# Altium footprint library 2Pin.PcbLib: 1 footprints
Each footprint in its own frame and in the unit in brackets; x right, y up, seen from the top. Pads: shape width x height; smd on the part's side, far side on the other; paste and mask are expansions set on the pad; w line width, h text height; cw(c..) or ccw(c..) is an arc to the next point about the centre after c.
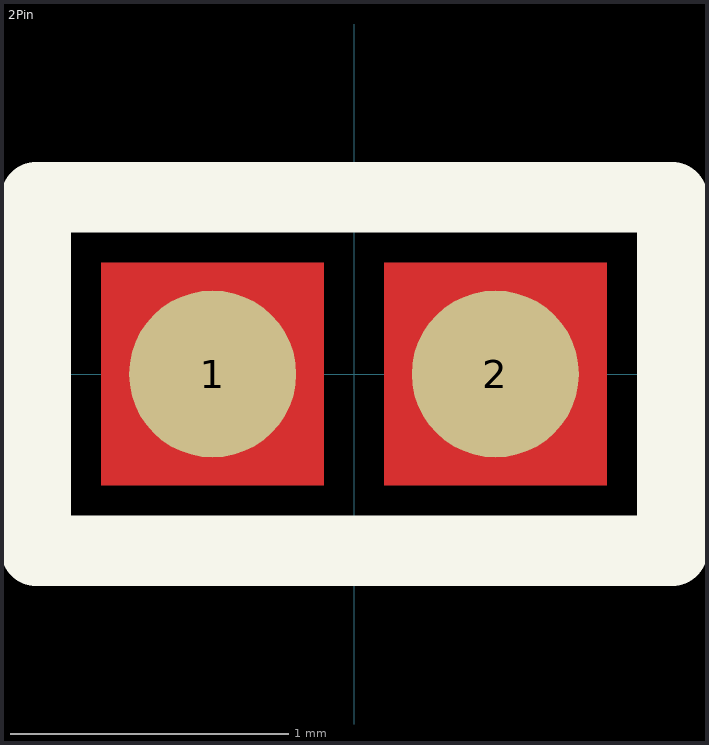
[diagram p0: the footprint, top view; thin cyan lines are the x and y axes]

## 2Pin [mm]
pads (2):
  round 0.6 smd: 1(-0.508,0) 2(0.508,0)
Top Layer:
  rectangle: 0.108,-0.4 0.908,0.4
  rectangle: -0.908,-0.4 -0.108,0.4
Top Overlay:
  lines w0.254: -1.143,-0.635 1.143,-0.635 1.143,0.635 -1.143,0.635 -1.143,-0.635
Top Solder:
  rectangle: -0.914,-0.406 -0.102,0.406
  rectangle: 0.102,-0.406 0.914,0.406